# EAGLE library part ST_MICRO_BAT_CHARGER_L6924U013 (library konekt)
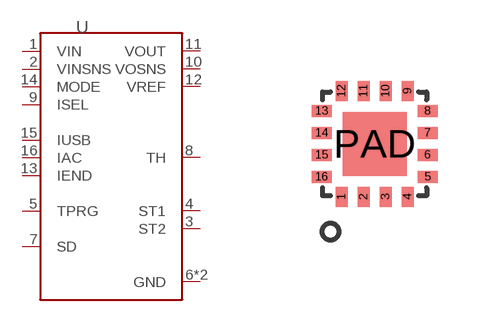
[diagram p4: symbol with the pads of BAT_CHARGE_ST_MICRO_L6924U; footprint BAT_CHARGE_ST_MICRO_L6924U]

Designator prefix U

## ST_MICRO_BAT_CHARGER_L6924U013 (MFG: ST Micro; PACKAGE: VFQFPN16; PARTNUM: L6924UTR)  [BAT_CHARGE_ST_MICRO_L6924U]
1  VIN
2  VINSNS
3  ST2
4  ST1
5  TPRG
6  GND
7  SD
8  TH
9  ISEL
10  VOSNS
11  VOUT
12  VREF
13  IEND
14  MODE
15  IUSB
16  IAC
PAD  GND

## Footprint BAT_CHARGE_ST_MICRO_L6924U (pad centres in mm)
smd 0.3 x 0.5: 1 -0.825,-1.325; 2 -0.275,-1.325; 3 0.275,-1.325; 4 0.825,-1.325; 9 0.825,1.325; 10 0.275,1.325; 11 -0.275,1.325; 12 -0.825,1.325
smd 0.5 x 0.3: 5 1.325,-0.825; 6 1.325,-0.275; 7 1.325,0.275; 8 1.325,0.825; 13 -1.325,0.825; 14 -1.325,0.275; 15 -1.325,-0.275; 16 -1.325,-0.825
smd 1.6 x 1.6: PAD 0,0